# Altium schematic symbol library SEMICONDUCTORS.SchLib: 12 symbols
Pins are listed as number, name and electrical type; pins without a type are passive.

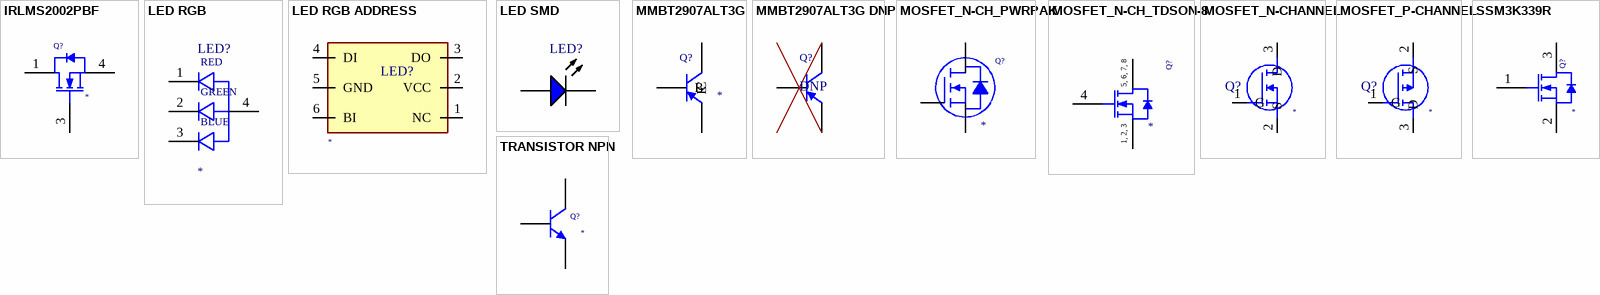
[diagram p0: symbols IRLMS2002PBF to TRANSISTOR NPN]

## IRLMS2002PBF
designator Q?
MOSFET N-CH 20V 6.5A 6-TSOP; Manufacturer Part Number: *
pins: 1 D, 2 D, 3 G, 4 S, 5 D, 6 D

## LED RGB
designator LED?
RGB (Red, Green, Blue) LED; Manufacturer Part Number: *
pins: 1, 2, 3, 4
text: RED; GREEN; BLUE

## LED RGB ADDRESS
designator LED?
RGB ADDRESSABLE LED; Manufacturer Part Number: *
pins: 1 NC, 2 VCC, 3 DO, 4 DI, 5 GND, 6 BI

## LED SMD
designator LED?
pins: 1 K, 2 A

## MMBT2907ALT3G
designator Q?
TRANS PNP 60V 0.6A SOT-23; Manufacturer Part Number: *
pins: 1 B, 2 E, 3 C

## MMBT2907ALT3G DNP
designator Q?, comment DNP
pins: 1 B, 2 E, 3 C

## MOSFET_N-CH_PWRPAK
designator Q?
MOSFET N-CH PPAK SO-8; Manufacturer Part Number: *
pins: 1 S, 2 S, 3 S, 4 G, 5 D, 6 D, 7 D, 8 D, 9 PPAD

## MOSFET_N-CH_TDSON-8
designator Q?
MOSFET N-CH TDSON-8; Manufacturer Part Number: *
pins: 1 SOURCE, 2 SOURCE, 3 SOURCE, 4 GATE, 5 DRAIN, 6 DRAIN, 7 DRAIN, 8 DRAIN
text: 5, 6, 7, 8; 1, 2, 3

## MOSFET_N-CHANNEL
designator Q?
MOSFET (N-Channel); Manufacturer Part Number: *
pins: 1 G, 2 S, 3 D

## MOSFET_P-CHANNEL
designator Q?
MOSFET (P-Channel); Manufacturer Part Number: *
pins: 1 G, 2 S, 3 D

## SSM3K339R
designator Q?
MOSFET N-CH 40V 2A SOT-23F; Manufacturer Part Number: *
pins: 1 G, 2 S, 3 D

## TRANSISTOR NPN
designator Q?
TRANSISTOR NPN; Manufacturer Part Number: *
pins: 1 B, 2 E, 3 C